# EAGLE library part HX711 (library IC & Transistor)
HX711 Load Cell Amplifier Created by: Wai Weng
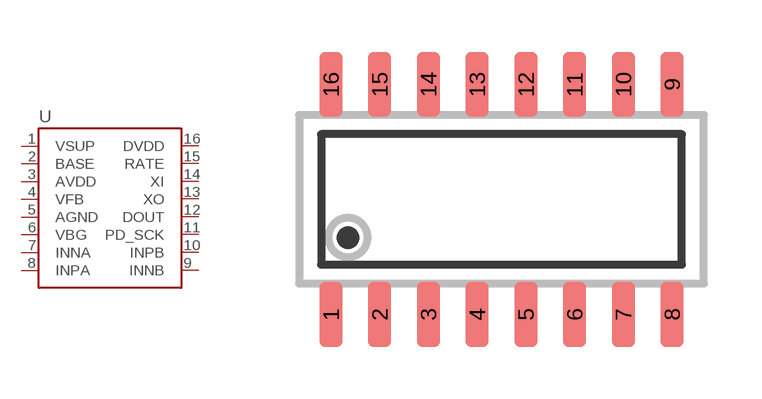
[diagram p63: symbol with the pads of SOIC-16N; footprint SOIC-16N]

Designator prefix U

## HX711 (DESC: Load Cell Amplifier; MF: AVIA Semiconductor; MPN: HX711)  [SOIC-16N]
1  VSUP
2  BASE
3  AVDD
4  VFB
5  AGND
6  VBG
7  INNA
8  INPA
9  INNB
10  INPB
11  PD_SCK
12  DOUT
13  XO
14  XI
15  RATE
16  DVDD

## Footprint SOIC-16N (pad centres in mm)
Small Outline Integrated Circuit (SOIC) Narrow (JEDEC) SOIC Package Size: 9.90 x 3.90mm / 10.55 x 4.4mm Lead Pitch: 1.27mm Created by: OoiBP
smd 0.6 x 1.7: 1 -4.445,-3; 2 -3.175,-3; 3 -1.905,-3; 4 -0.635,-3; 5 0.635,-3; 6 1.905,-3; 7 3.175,-3; 8 4.445,-3; 9 4.445,3; 10 3.175,3; 11 1.905,3; 12 0.635,3; 13 -0.635,3; 14 -1.905,3; 15 -3.175,3; 16 -4.445,3